# EAGLE library part RASPBERRY-PI-PICO (library Proper-Pico)
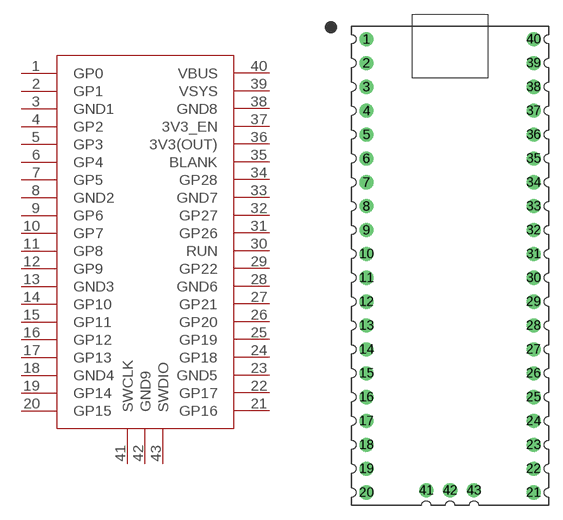
[diagram p0: symbol with the pads of PICO-PKG-TH; footprint PICO-PKG-TH]

Designator prefix -

## RASPBERRY-PI-PICO  [PICO-PKG-TH]
1  GP0
2  GP1
3  GND1
4  GP2
5  GP3
6  GP4
7  GP5
8  GND2
9  GP6
10  GP7
11  GP8
12  GP9
13  GND3
14  GP10
15  GP11
16  GP12
17  GP13
18  GND4
19  GP14
20  GP15
21  GP16
22  GP17
23  GND5
24  GP18
25  GP19
26  GP20
27  GP21
28  GND6
29  GP22
30  RUN
31  GP26
32  GP27
33  GND7
34  GP28
35  BLANK
36  3V3(OUT)
37  3V3_EN
38  GND8
39  VSYS
40  VBUS
41  SWCLK
42  GND9
43  SWDIO

## Footprint PICO-PKG-TH (pad centres in mm)
drill 1: 1 -8.89,24.13; 2 -8.89,21.59; 3 -8.89,19.05; 4 -8.89,16.51; 5 -8.89,13.97; 6 -8.89,11.43; 7 -8.89,8.89; 8 -8.89,6.35; 9 -8.89,3.81; 10 -8.89,1.27; 11 -8.89,-1.27; 12 -8.89,-3.81; 13 -8.89,-6.35; 14 -8.89,-8.89; 15 -8.89,-11.43; 16 -8.89,-13.97; 17 -8.89,-16.51; 18 -8.89,-19.05; 19 -8.89,-21.59; 20 -8.89,-24.13; 21 8.89,-24.13; 22 8.89,-21.59; 23 8.89,-19.05; 24 8.89,-16.51; 25 8.89,-13.97; 26 8.89,-11.43; 27 8.89,-8.89; 28 8.89,-6.35; 29 8.89,-3.81; 30 8.89,-1.27; 31 8.89,1.27; 32 8.89,3.81; 33 8.89,6.35; 34 8.89,8.89; 35 8.89,11.43; 36 8.89,13.97; 37 8.89,16.51; 38 8.89,19.05; 39 8.89,21.59; 40 8.89,24.13; 41 -2.54,-23.9; 42 0,-23.9; 43 2.54,-23.9